# EAGLE library part 625050230621 (library Wire_to_Board_Connectors_rev15d)
WR-BHD 2.00mm Male SMT Box Header With Lever, 50 pins
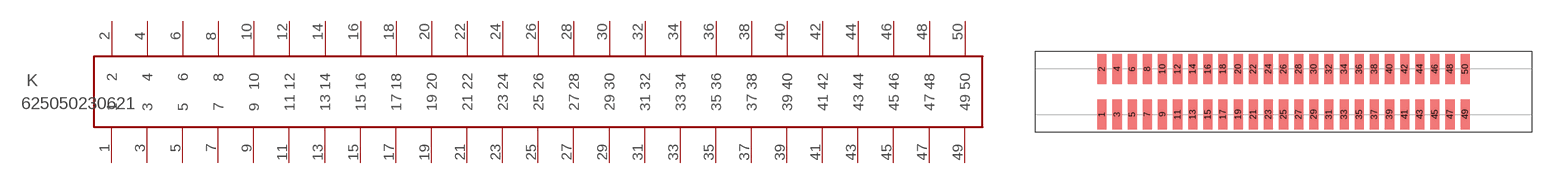
[diagram p264: symbol with the pads of 625050230621; footprint 625050230621]

Designator prefix K

## 625050230621  [625050230621]
1  1  pas
2  2  pas
3  3  pas
4  4  pas
5  5  pas
6  6  pas
7  7  pas
8  8  pas
9  9  pas
10  10  pas
11  11  pas
12  12  pas
13  13  pas
14  14  pas
15  15  pas
16  16  pas
17  17  pas
18  18  pas
19  19  pas
20  20  pas
21  21  pas
22  22  pas
23  23  pas
24  24  pas
25  25  pas
26  26  pas
27  27  pas
28  28  pas
29  29  pas
30  30  pas
31  31  pas
32  32  pas
33  33  pas
34  34  pas
35  35  pas
36  36  pas
37  37  pas
38  38  pas
39  39  pas
40  40  pas
41  41  pas
42  42  pas
43  43  pas
44  44  pas
45  45  pas
46  46  pas
47  47  pas
48  48  pas
49  49  pas
50  50  pas

## Footprint 625050230621 (pad centres in mm)
WR-BHD-2.00mm Male SMT Box Header With Lever,50 pins
smd 1.2 x 4: 1 -18,-3; 2 -18,3; 3 -16,-3; 4 -16,3; 5 -14,-3; 6 -14,3; 7 -12,-3; 8 -12,3; 9 -10,-3; 10 -10,3; 11 -8,-3; 12 -8,3; 13 -6,-3; 14 -6,3; 15 -4,-3; 16 -4,3; 17 -2,-3; 18 -2,3; 19 0,-3; 20 0,3; 21 2,-3; 22 2,3; 23 4,-3; 24 4,3; 25 6,-3; 26 6,3; 27 8,-3; 28 8,3; 29 10,-3; 30 10,3; 31 12,-3; 32 12,3; 33 14,-3; 34 14,3; 35 16,-3; 36 16,3; 37 18,-3; 38 18,3; 39 20,-3; 40 20,3; 41 22,-3; 42 22,3; 43 24,-3; 44 24,3; 45 26,-3; 46 26,3; 47 28,-3; 48 28,3; 49 30,-3; 50 30,3